# Altium footprint library HIROSE_DF13-4P-1-25DSA.PcbLib: 1 footprints
Each footprint in its own frame and in the unit in brackets; x right, y up, seen from the top. Pads: shape width x height; smd on the part's side, far side on the other; paste and mask are expansions set on the pad; w line width, h text height; cw(c..) or ccw(c..) is an arc to the next point about the centre after c.
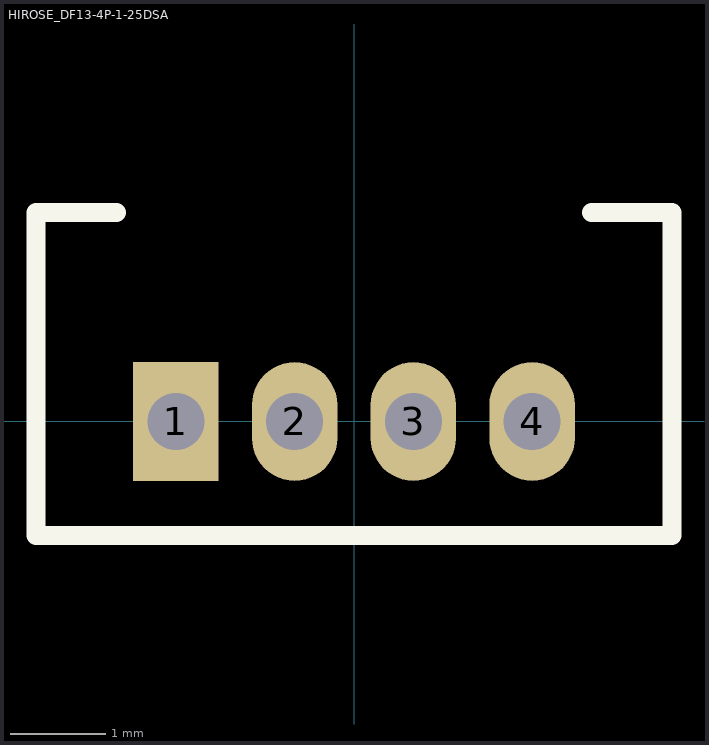
[diagram p0: the footprint, top view; thin cyan lines are the x and y axes]

## HIROSE_DF13-4P-1-25DSA [mm]
pads (4):
  rect 0.9x1.25 hole 0.6 mask+0.05: 1(-1.875,0)
  oval 0.9x1.25 hole 0.6 mask+0.05: 2(-0.625,0) 3(0.625,0) 4(1.875,0)
Top Overlay:
  lines w0.2: -2.5,2.2 -3.35,2.2 -3.35,-1.2 3.35,-1.2 3.35,2.2 2.5,2.2
3D body "DF13-4P-1.25DSA.stp": height 4.32, standoff -2.28, extent -3.325,-1.2 3.325,2.2